# EAGLE library part BC847BS,135 (library SamacSys_Parts)
Bipolar Transistors - BJT TRANS DOUBLE TAPE-11 Source: Datasheet <https://assets.nexperia.com/documents/data-sheet/BC847BS.pdf>
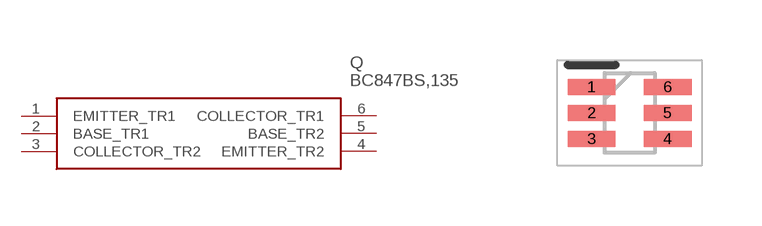
[diagram p56: symbol with the pads of SOT65P210X110-6N; footprint SOT65P210X110-6N]

Designator prefix Q

## BC847BS,135 (DESCRIPTION: Bipolar Transistors - BJT TRANS DOUBLE TAPE-11; HEIGHT: 1.1mm; MANUFACTURER_NAME: Nexperia; MANUFACTURER_PART_NUMBER: BC847BS,135; MOUSER_PART_NUMBER: 771-BC847BS135; MOUSER_PRICE-STOCK: https://www.mouser.co.uk/ProductDetail/Nexperia/BC847BS135?qs=me8TqzrmIYUM5beyEGr3Nw%3D%3D)  [SOT65P210X110-6N]
1  EMITTER_TR1
2  BASE_TR1
3  COLLECTOR_TR2
4  EMITTER_TR2
5  BASE_TR2
6  COLLECTOR_TR1

## Footprint SOT65P210X110-6N (pad centres in mm)
DCK (R-PDSO-G6)
smd 1.2 x 0.4: 1 -0.95,0.65; 2 -0.95,0; 3 -0.95,-0.65; 4 0.95,-0.65; 5 0.95,0; 6 0.95,0.65